# Altium footprint library connectors_other.PcbLib: 33 footprints (part 1 of 3)
Each footprint in its own frame and in the unit in brackets; x right, y up, seen from the top. Pads: shape width x height; smd on the part's side, far side on the other; paste and mask are expansions set on the pad; w line width, h text height; cw(c..) or ccw(c..) is an arc to the next point about the centre after c.
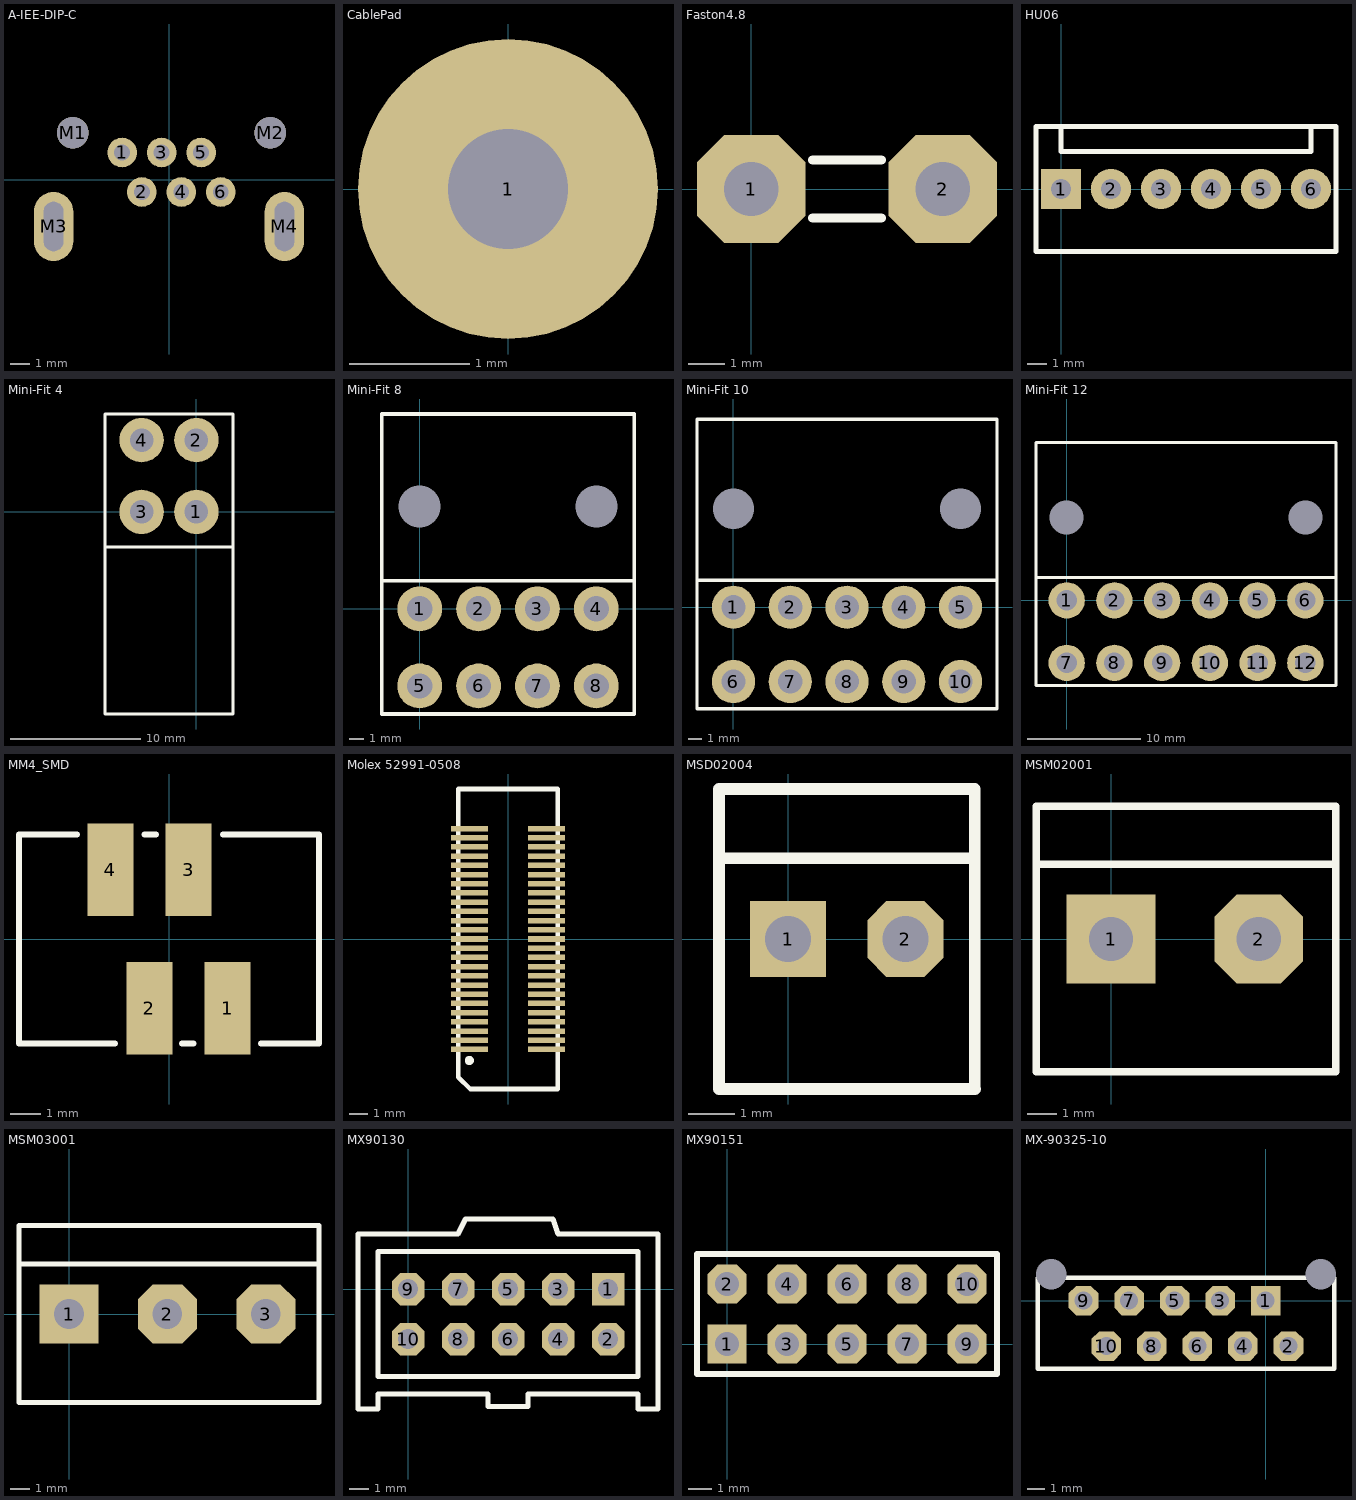
[diagram p0: the footprints below, top view; thin cyan lines are the x and y axes]

## A-IEE-DIP-C [mm] "IEEE1394 vertical DIP connector"
pads (10):
  round 1.5 hole 0.8: 1(-2.375,1.375) 2(-1.375,-0.625) 3(-0.375,1.375) 4(0.625,-0.625) 5(1.625,1.375) 6(2.625,-0.625)
  round 1.6 hole 1.6: M1(-4.875,2.375) M2(5.125,2.375)
  oval 2x3.5 hole 1 slot 2.5 at 90 deg: M3(-5.85,-2.375) M4(5.85,-2.375)
3D body "14355.stp": height 8.7, standoff -3.35, extent -6.6,-13 6.9,3.2

## CablePad [mm]
pads (1):
  round 2.5 hole 1: 1(0,0)

## Faston4.8 [mm]
pads (2):
  oct 3x3 hole 1.5: 1(0,0) 2(5.3,0)
Top Overlay:
  lines w0.254: 1.7,-0.8 3.6,-0.8 ; 1.7,0.8 3.6,0.8

## HU06 [mil]
height 452.76
pads (6):
  rect 80x80 hole 39.37: 1(0,0)
  round 80 hole 39.37: 2(100,0) 3(200,0) 4(300,0) 5(400,0) 6(500,0)
Top Overlay:
  lines w10: 0,125 0,75 500,75 500,125 ; -50,-125 550,-125 550,125 -50,125 -50,-125

## Mini-Fit 4 [mm] "4.20mm Mini-Fit D/R Power Connector Wafer"
height 9.6
pads (4):
  round 3.4 hole 1.8: 1(0,0) 2(0,5.5) 3(-4.2,0) 4(-4.2,5.5)
Top Overlay:
  lines w0.254: -7,-2.7 2.8,-2.7 ; -7,-15.5 -7,7.5 2.8,7.5 2.8,-15.5 -7,-15.5

## Mini-Fit 8 [mm] "4.20mm Mini-Fit D/R Power Connector Wafer"
height 10
pads (10):
  round 0 hole 3: 0(0,7.3) 0(12.6,7.3)
  round 3.2 hole 1.8: 1(0,0) 2(4.2,0) 3(8.4,0) 4(12.6,0) 5(0,-5.5) 6(4.2,-5.5) 7(8.4,-5.5) 8(12.6,-5.5)
Top Overlay:
  lines w0.254: -2.7,2 15.3,2 ; -2.7,-7.5 -2.7,13.9 15.3,13.9 15.3,-7.5 -2.7,-7.5

## Mini-Fit 10 [mm] "4.20mm Mini-Fit D/R Power Connector Wafer"
height 10
pads (12):
  round 0 hole 3: 0(0,7.3) 0(16.8,7.3)
  round 3.2 hole 1.8: 1(0,0) 2(4.2,0) 3(8.4,0) 4(12.6,0) 5(16.8,0) 6(0,-5.5) 7(4.2,-5.5) 8(8.4,-5.5) 9(12.6,-5.5) 10(16.8,-5.5)
Top Overlay:
  lines w0.254: -2.7,2 19.5,2 ; -2.7,-7.5 19.5,-7.5 19.5,13.9 -2.7,13.9 -2.7,-7.5

## Mini-Fit 12 [mm] "4.20mm Mini-Fit D/R Power Connector Wafer"
height 10
pads (14):
  round 0 hole 3: 0(0,7.3) 0(21,7.3)
  round 3.2 hole 1.8: 1(0,0) 2(4.2,0) 3(8.4,0) 4(12.6,0) 5(16.8,0) 6(21,0) 7(0,-5.5) 8(4.2,-5.5) 9(8.4,-5.5) 10(12.6,-5.5) 11(16.8,-5.5) 12(21,-5.5)
Top Overlay:
  lines w0.254: -2.7,2 23.7,2 ; -2.7,-7.5 -2.7,13.9 23.7,13.9 23.7,-7.5 -2.7,-7.5

## MM4_SMD [mm] "Amphenol TMM-6-L-04-2 4pin"
height 4
pads (4):
  rect 1.5x3 smd: 1(1.905,-2.25) 2(-0.635,-2.25) 3(0.635,2.25) 4(-1.905,2.25)
Top Overlay:
  lines w0.2: -3,3.4 -4.875,3.4 -4.875,-3.4 -1.75,-3.4 ; -0.8,3.4 -0.425,3.4 ; 0.425,-3.4 0.8,-3.4 ; 1.75,3.4 4.875,3.4 4.875,-3.4 3,-3.4
3D body: height 5.27, standoff 0, extent -4.8,-3.3 4.8,3.3
3D body: height 0.5, standoff 0, extent -2.2,3.3 -1.7,3.7
3D body: height 0.5, standoff 0, extent 0.4,3.3 0.9,3.7
3D body: height 0.5, standoff 0, extent 1.65,-3.7 2.15,-3.3
3D body: height 0.5, standoff 0, extent -0.85,-3.7 -0.35,-3.3

## Molex 52991-0508 [mm] "GM862 GSM Module Connector"
height 2.27
pads (50):
  rect 2x0.3 smd: 1(-2.1,-6) 2(2.1,-6) 3(-2.1,-5.5) 4(2.1,-5.5) 5(-2.1,-5) 6(2.1,-5) 7(-2.1,-4.5) 8(2.1,-4.5) 9(-2.1,-4) 10(2.1,-4) 11(-2.1,-3.5) 12(2.1,-3.5) 13(-2.1,-3) 14(2.1,-3) 15(-2.1,-2.5) 16(2.1,-2.5) 17(-2.1,-2) 18(2.1,-2) 19(-2.1,-1.5) 20(2.1,-1.5) 21(-2.1,-1) 22(2.1,-1) 23(-2.1,-0.5) 24(2.1,-0.5) 25(-2.1,0) 26(2.1,0) 27(-2.1,0.5) 28(2.1,0.5) 29(-2.1,1) 30(2.1,1) 31(-2.1,1.5) 32(2.1,1.5) 33(-2.1,2) 34(2.1,2) 35(-2.1,2.5) 36(2.1,2.5) 37(-2.1,3) 38(2.1,3) 39(-2.1,3.5) 40(2.1,3.5) 41(-2.1,4) 42(2.1,4) 43(-2.1,4.5) 44(2.1,4.5) 45(-2.1,5) 46(2.1,5) 47(-2.1,5.5) 48(2.1,5.5) 49(-2.1,6) 50(2.1,6)
Top Overlay:
  circle w0.25: c-2.1,-6.6 r0.125
  lines w0.254: -2.7,-7.5 -2.05,-8.15 2.7,-8.15 2.7,8.15 -2.7,8.15 -2.7,-7.5

## MSD02004 [mm] "terminal block raster 5.08mm"
height 15.189
pads (2):
  rect 1.65x1.65 hole 1: 1(0,0)
  oct 1.65x1.65 hole 1: 2(2.54,0)
Top Overlay:
  lines w0.254: -1.5,1.75 4.04,1.75 ; 4.04,-3.25 4.04,3.25 -1.5,3.25 -1.5,-3.25 4.05,-3.25

## MSM02001 [mm] "terminal block raster 5.08mm"
height 15.189
pads (2):
  rect 3x3 hole 1.5: 1(0,0)
  oct 3x3 hole 1.5: 2(5,0)
Top Overlay:
  lines w0.254: -2.54,2.54 7.62,2.54 ; -2.54,-4.496 7.62,-4.496 7.62,4.496 -2.54,4.496 -2.54,-4.496

## MSM03001 [mm] "terminal block raster 5.08mm"
height 15.189
pads (3):
  rect 3x3 hole 1.5: 1(0,0)
  oct 3x3 hole 1.5: 2(5,0) 3(10,0)
Top Overlay:
  lines w0.254: -2.54,2.54 12.7,2.54 ; -2.54,-4.496 12.7,-4.496 12.7,4.496 -2.54,4.496 -2.54,-4.496

## MX90130 [mil]
pads (10):
  rect 65x65 hole 39.37: 1(400,0)
  oct 65x65 hole 39.37: 2(400,-100) 3(300,0) 4(300,-100) 5(200,0) 6(200,-100) 7(100,0) 8(100,-100) 9(0,0) 10(0,-100)
Top Overlay:
  lines w10: -100,-240 -100,110 100,110 115,140 290,140 300,110 500,110 500,-240 460,-240 460,-210 240,-210 240,-235 160,-235 160,-210 -60,-210 -60,-240 -100,-240 ; -60,-175 460,-175 460,75 -60,75 -60,-175

## MX90151 [mil]
pads (10):
  rect 65x65 hole 39.37: 1(0,0)
  oct 65x65 hole 39.37: 2(0,100) 3(100,0) 4(100,100) 5(200,0) 6(200,100) 7(300,0) 8(300,100) 9(400,0) 10(400,100)
Top Overlay:
  lines w10: -50,-50 -50,150 450,150 450,-50 -50,-50

## MX-90325-10 [mil] "Picoflex"
pads (12):
  round 0 hole 66.93: 0(-470.87,57.87) 0(120.87,57.87)
  rect 65x65 hole 39.37: 1(0,0)
  oct 65x65 hole 39.37: 2(50,-100) 3(-100,0) 4(-50,-100) 5(-200,0) 6(-150,-100) 7(-300,0) 8(-250,-100) 9(-400,0) 10(-350,-100)
Top Overlay:
  lines w10: -500,-150 -500,50 150,50 150,-150 -500,-150